# Altium footprint library PotBoruns2.PcbLib: 1 footprints
Each footprint in its own frame and in the unit in brackets; x right, y up, seen from the top. Pads: shape width x height; smd on the part's side, far side on the other; paste and mask are expansions set on the pad; w line width, h text height; cw(c..) or ccw(c..) is an arc to the next point about the centre after c.
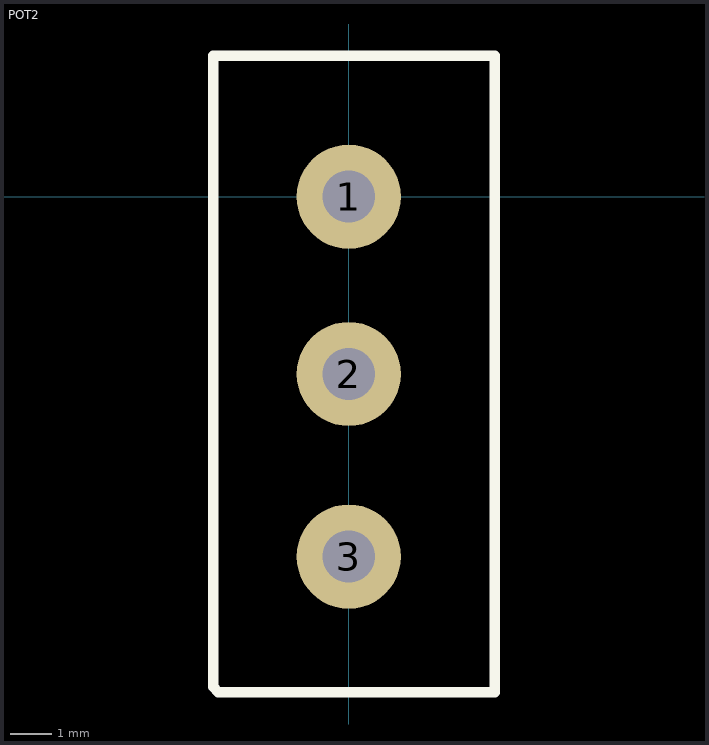
[diagram p0: the footprint, top view; thin cyan lines are the x and y axes]

## POT2 [mil]
pads (3):
  round 100 hole 50: 1(0,0) 2(0,-170) 3(0,-345)
Top Overlay:
  lines w10: -130,-470 -130,135 140,135 140,-475 -125,-475 -130,-470